# Altium footprint library MULTIWATT-15_L19.6-W5.0-P1.27-L.PcbLib: 1 footprints
Each footprint in its own frame and in the unit in brackets; x right, y up, seen from the top. Pads: shape width x height; smd on the part's side, far side on the other; paste and mask are expansions set on the pad; w line width, h text height; cw(c..) or ccw(c..) is an arc to the next point about the centre after c.
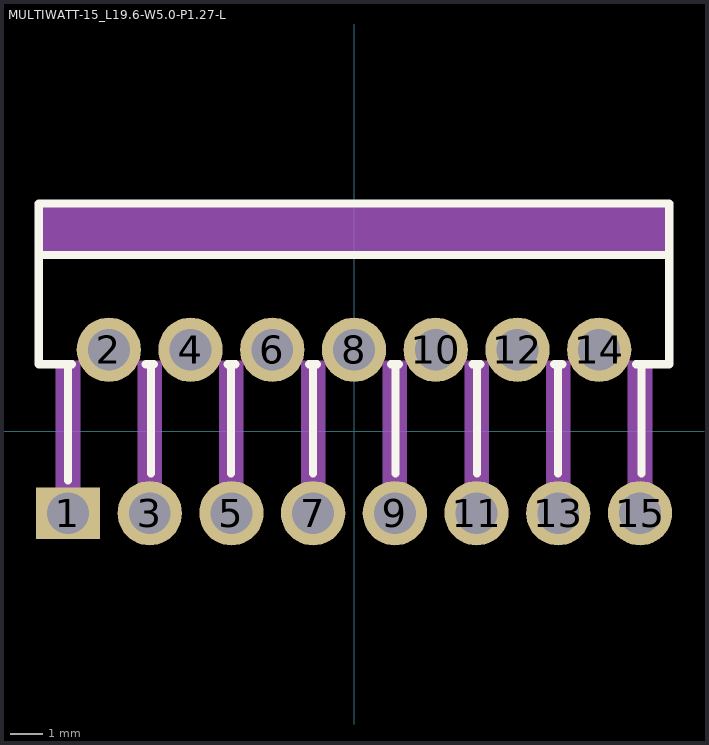
[diagram p0: the footprint, top view; thin cyan lines are the x and y axes]

## MULTIWATT-15_L19.6-W5.0-P1.27-L [mm]
pads (15):
  rect 2x1.6 hole 1.3 paste+0 mask+0.051: 1(-8.89,-2.54)
  round 2 hole 1.3 paste+0 mask+0.051: 2(-7.62,2.54) 3(-6.35,-2.54) 4(-5.08,2.54) 5(-3.81,-2.54) 6(-2.54,2.54) 7(-1.27,-2.54) 8(0,2.54) 9(1.27,-2.54) 10(2.54,2.54) 11(3.81,-2.54) 12(5.08,2.54) 13(6.35,-2.54) 14(7.62,2.54) 15(8.89,-2.54)
Top Overlay:
  lines w0.254: -9.8,5.49 9.8,5.49 ; -8.89,-1.524 -8.89,1.954 ; -8.766,2.09 -9.8,2.09 -9.8,7.09 9.8,7.09 9.8,2.09 8.766,2.09 ; -6.474,2.09 -6.226,2.09 ; -6.308,-1.31 -6.308,2.09 ; -3.934,2.09 -3.686,2.09 ; -3.819,-1.31 -3.819,2.09 ; -1.394,2.09 -1.146,2.09 ; -1.279,-1.31 -1.279,2.09 ; 1.146,2.09 1.394,2.09 ; 1.287,-1.31 1.287,2.09 ; 3.686,2.09 3.934,2.09 ; 3.827,-1.31 3.827,2.09 ; 6.226,2.09 6.474,2.09 ; 6.341,-1.31 6.341,2.09 ; 8.932,-1.31 8.932,2.09
Mechanical 6:
  region: -9.652,7.112 9.779,7.112 9.779,5.588 -9.652,5.588
Mechanical 15:
  region: 8.515,2.2 9.265,2.2 9.265,-2.4 8.515,-2.4
  region: 5.975,2.2 6.725,2.2 6.725,-2.4 5.975,-2.4
  region: 3.435,2.2 4.185,2.2 4.185,-2.4 3.435,-2.4
  region: 0.895,2.2 1.645,2.2 1.645,-2.4 0.895,-2.4
  region: -1.645,2.2 -0.895,2.2 -0.895,-2.4 -1.645,-2.4
  region: -4.185,2.2 -3.435,2.2 -3.435,-2.4 -4.185,-2.4
  region: -6.725,2.2 -5.975,2.2 -5.975,-2.4 -6.725,-2.4
  region: -9.265,2.2 -8.515,2.2 -8.515,-2.4 -9.265,-2.4
  region: 8.515,-2.28 9.265,-2.28 9.265,-2.8 8.515,-2.8
  region: 7.245,2.8 7.995,2.8 7.995,2.28 7.245,2.28
  region: 5.975,-2.28 6.725,-2.28 6.725,-2.8 5.975,-2.8
  region: 4.705,2.8 5.455,2.8 5.455,2.28 4.705,2.28
  region: 3.435,-2.28 4.185,-2.28 4.185,-2.8 3.435,-2.8
  region: 2.165,2.8 2.915,2.8 2.915,2.28 2.165,2.28
  region: 0.895,-2.28 1.645,-2.28 1.645,-2.8 0.895,-2.8
  region: -0.375,2.8 0.375,2.8 0.375,2.28 -0.375,2.28
  region: -1.645,-2.28 -0.895,-2.28 -0.895,-2.8 -1.645,-2.8
  region: -2.915,2.8 -2.165,2.8 -2.165,2.28 -2.915,2.28
  region: -4.185,-2.28 -3.435,-2.28 -3.435,-2.8 -4.185,-2.8
  region: -5.455,2.8 -4.705,2.8 -4.705,2.28 -5.455,2.28
  region: -6.725,-2.28 -5.975,-2.28 -5.975,-2.8 -6.725,-2.8
  region: -7.995,2.8 -7.245,2.8 -7.245,2.28 -7.995,2.28
  region: -9.265,-2.28 -8.515,-2.28 -8.515,-2.8 -9.265,-2.8
  region: -9.74,-2.8 -9.74,-2.775 -9.775,-2.74 -9.825,-2.74 -9.86,-2.775 -9.86,-2.8 -9.86,-2.825 -9.825,-2.86 -9.775,-2.86 -9.74,-2.825 -9.74,-2.8
  lines w0.051: -9.8,2.09 9.8,2.09 9.8,7.09 -9.8,7.09 -9.8,2.09